# EAGLE library part 20P-CH-TO-CH (library bao20)
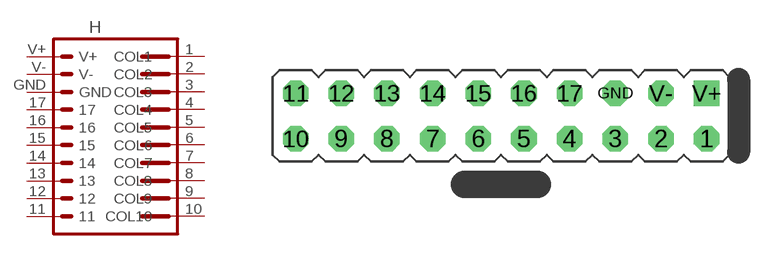
[diagram p6: symbol with the pads of 20P_IDC_CH-TO-CH_01; footprint 20P_IDC_CH-TO-CH_01]

Designator prefix H

## 20P-CH-TO-CH (NHPREF: 69; POPULATE: TRUE; VALUE: 2x10_JTAG)  [20P_IDC_CH-TO-CH_01]
1  COL1  pas
2  COL2  pas
3  COL3  pas
4  COL4  pas
5  COL5  pas
6  COL6  pas
7  COL7  pas
8  COL8  pas
9  COL9  pas
10  COL10  pas
11  11  pas
12  12  pas
13  13  pas
14  14  pas
15  15  pas
16  16  pas
17  17  pas
GND  GND  pas
V+  V+  pas
V-  V-  pas

## Footprint 20P_IDC_CH-TO-CH_01 (pad centres in mm)
drill 0.914 octagon: 1 11.43,-1.27; 2 8.89,-1.27; 3 6.35,-1.27; 4 3.81,-1.27; 5 1.27,-1.27; 6 -1.27,-1.27; 7 -3.81,-1.27; 8 -6.35,-1.27; 9 -8.89,-1.27; 10 -11.43,-1.27; 11 -11.43,1.27; 12 -8.89,1.27; 13 -6.35,1.27; 14 -3.81,1.27; 15 -1.27,1.27; 16 1.27,1.27; 17 3.81,1.27; GND 6.35,1.27; V- 8.89,1.27
drill 0.914 square: V+ 11.43,1.27